# EAGLE library part TPS65023 (library texas1)
POWER MANAGEMENT IC FOR LI-ION POWERED SYSTEMS Source: http://focus.ti.com/lit/ds/symlink/tps65023.pdf
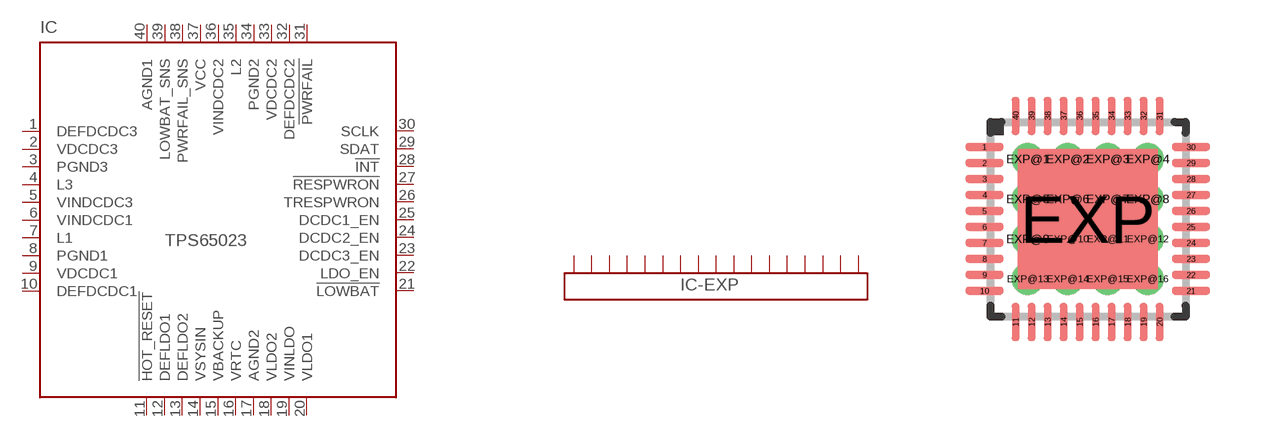
[diagram p43: symbol with the pads of QFN40-5X5; footprint QFN40-5X5]

Designator prefix IC; gates G$1=TPS65023 -EXP=EXP17

## TPS65023 (MPN: TPS65023RSBR; OC_FARNELL: 1652451; OC_NEWARK: 22M1826)  [QFN40-5X5]
1  G$1:DEFDCDC3  in
2  G$1:VDCDC3  in
3  G$1:PGND3  in
4  G$1:L3  pas
5  G$1:VINDCDC3  in
6  G$1:VINDCDC1  in
7  G$1:L1  pas
8  G$1:PGND1  in
9  G$1:VDCDC1  in
10  G$1:DEFDCDC1  in
11  G$1:!HOT_RESET  in
12  G$1:DEFLDO1  in
13  G$1:DEFLDO2  in
14  G$1:VSYSIN  in
15  G$1:VBACKUP  in
16  G$1:VRTC  out
17  G$1:AGND2  in
18  G$1:VLDO2  out
19  G$1:VINLDO  in
20  G$1:VLDO1  out
21  G$1:!LOWBAT  oc
22  G$1:LDO_EN  in
23  G$1:DCDC3_EN  in
24  G$1:DCDC2_EN  in
25  G$1:DCDC1_EN  in
26  G$1:TRESPWRON  in
27  G$1:!RESPWRON  oc
28  G$1:!INT  oc
29  G$1:SDAT
30  G$1:SCLK  in
31  G$1:!PWRFAIL  oc
32  G$1:DEFDCDC2  in
33  G$1:VDCDC2  in
34  G$1:PGND2  in
35  G$1:L2  pas
36  G$1:VINDCDC2  in
37  G$1:VCC  in
38  G$1:PWRFAIL_SNS  in
39  G$1:LOWBAT_SNS  in
40  G$1:AGND1  in
EXP  -EXP:EXP  in
EXP@1  -EXP:EXP16  in
EXP@2  -EXP:EXP16  in
EXP@3  -EXP:EXP16  in
EXP@4  -EXP:EXP16  in
EXP@5  -EXP:EXP16  in
EXP@6  -EXP:EXP16  in
EXP@7  -EXP:EXP16  in
EXP@8  -EXP:EXP16  in
EXP@9  -EXP:EXP16  in
EXP@10  -EXP:EXP16  in
EXP@11  -EXP:EXP16  in
EXP@12  -EXP:EXP16  in
EXP@13  -EXP:EXP16  in
EXP@14  -EXP:EXP16  in
EXP@15  -EXP:EXP16  in
EXP@16  -EXP:EXP16  in

## Footprint QFN40-5X5 (pad centres in mm)
RSB (S-PWQFN-N40) Set restring parameter in design rules to 0, for top, inner, bottom at minimum and %. Source: RSB_TPS65023RSB_Land_Pattern.pdf
smd 0.95 x 0.2: 1 -2.58,1.8; 2 -2.58,1.4; 3 -2.58,1; 4 -2.58,0.6; 5 -2.58,0.2; 6 -2.58,-0.2; 7 -2.58,-0.6; 8 -2.58,-1; 9 -2.58,-1.4; 10 -2.58,-1.8; 21 2.58,-1.8; 22 2.58,-1.4; 23 2.58,-1; 24 2.58,-0.6; 25 2.58,-0.2; 26 2.58,0.2; 27 2.58,0.6; 28 2.58,1; 29 2.58,1.4; 30 2.58,1.8
smd 0.2 x 0.95: 11 -1.8,-2.58; 12 -1.4,-2.58; 13 -1,-2.58; 14 -0.6,-2.58; 15 -0.2,-2.58; 16 0.2,-2.58; 17 0.6,-2.58; 18 1,-2.58; 19 1.4,-2.58; 20 1.8,-2.58; 31 1.8,2.58; 32 1.4,2.58; 33 1,2.58; 34 0.6,2.58; 35 0.2,2.58; 36 -0.2,2.58; 37 -0.6,2.58; 38 -1,2.58; 39 -1.4,2.58; 40 -1.8,2.58
smd 3.5 x 3.5: EXP 0,0
drill 0.3 pad 0.5: EXP@1 -1.5,1.5; EXP@2 -0.5,1.5; EXP@3 0.5,1.5; EXP@4 1.5,1.5; EXP@5 -1.5,0.5; EXP@6 -0.5,0.5; EXP@7 0.5,0.5; EXP@8 1.5,0.5; EXP@9 -1.5,-0.5; EXP@10 -0.5,-0.5; EXP@11 0.5,-0.5; EXP@12 1.5,-0.5; EXP@13 -1.5,-1.5; EXP@14 -0.5,-1.5; EXP@15 0.5,-1.5; EXP@16 1.5,-1.5